# Altium integrated library STMicroelectronics Power Management Linear Regulator.IntLib: 506 symbols (part 10 of 10)
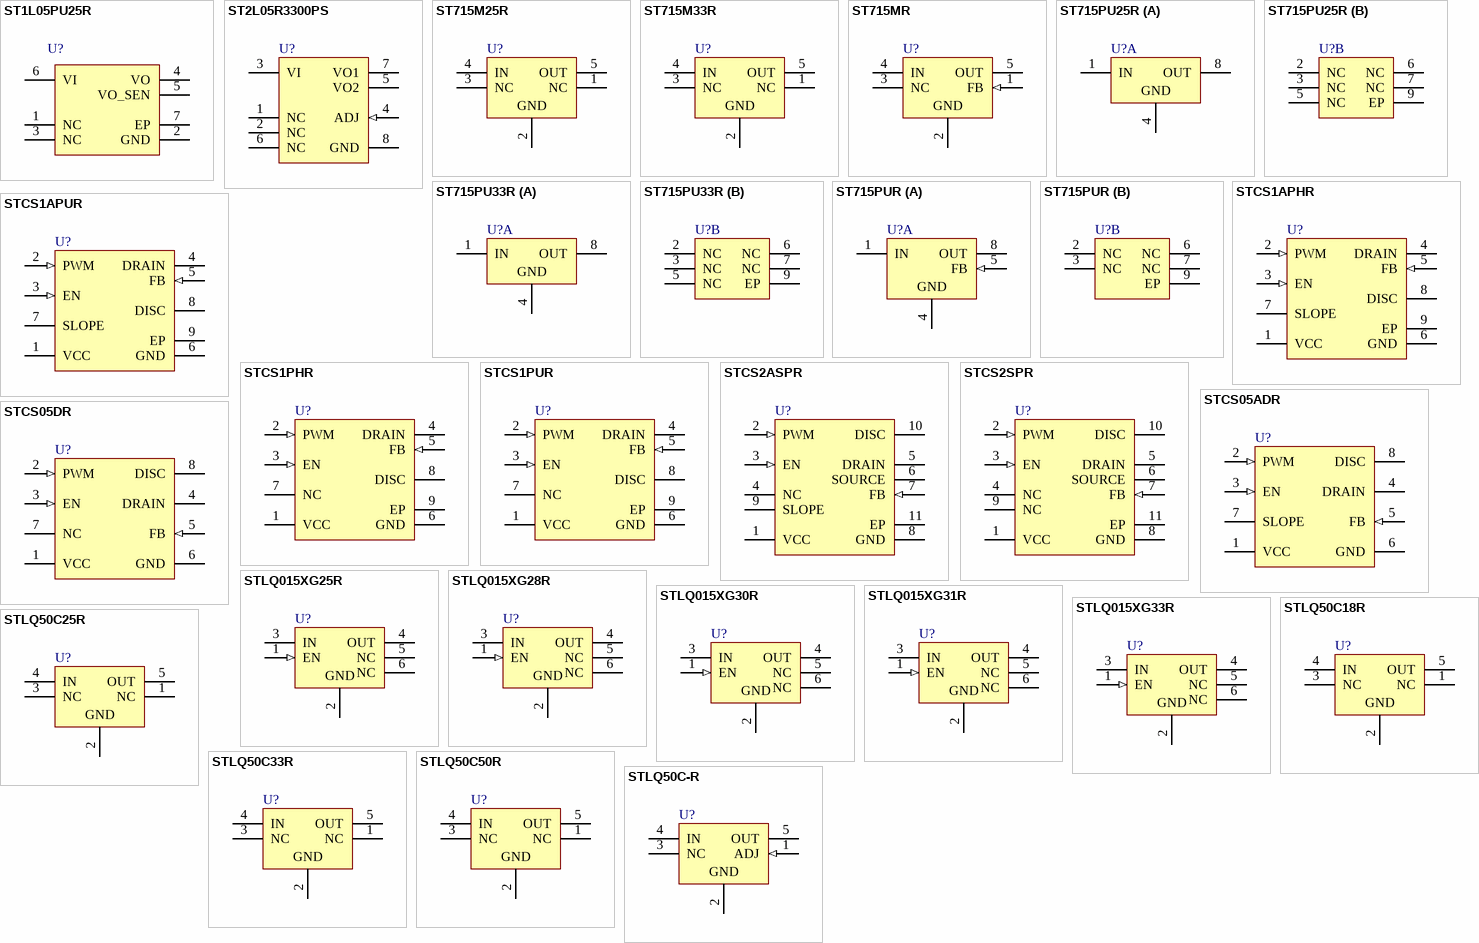
[diagram p21: symbols ST1L05PU25R to STLQ50C-R]

## STLQ50C33R
designator U?
50mA, 3µA Supply Current Low Drop Linear Regulator, 3.3V, 5-Pin SOT-323, Tape and Reel; PartNumber: STLQ50C33R; DatasheetVersion: Nov-2007; PackageVersion: 2006; PackageReference: SOT323-5L; PackageDescription: 5-Pin SOT-323 Package, 2 x 1.3 mm Body, 0.65 mm Pitch, 2.1 mm Lead Span; ComponentLink1Description: Manufacturer URL; ComponentLink1URL: http://www.st.com; ComponentLink2Description: Datasheet; ComponentLink2URL: http://www.st.com/internet/com/TECHNICAL_RESOURCES/TECHNICAL_LITERATURE/DATASHEET/CD00151464.pdf
footprint SOT323-5L_N (SOT323, 5-Leads, Body 2x1.3mm, Pitch 0.65mm, Lead Span 2.1mm, IPC Medium Density)
footprint SOT323-5L_L (SOT323, 5-Leads, Body 2x1.3mm, Pitch 0.65mm, Lead Span 2.1mm, IPC High Density)
footprint SOT323-5L_M (SOT323, 5-Leads, Body 2x1.3mm, Pitch 0.65mm, Lead Span 2.1mm, IPC Low Density)
pins: 1 NC, 2 GND (power), 3 NC, 4 IN (power), 5 OUT (power)

## STLQ50C50R
designator U?
50mA, 3µA Supply Current Low Drop Linear Regulator, 5.0V, 5-Pin SOT-323, Tape and Reel; PartNumber: STLQ50C50R; DatasheetVersion: Nov-2007; PackageVersion: 2006; PackageReference: SOT323-5L; PackageDescription: 5-Pin SOT-323 Package, 2 x 1.3 mm Body, 0.65 mm Pitch, 2.1 mm Lead Span; ComponentLink1Description: Manufacturer URL; ComponentLink1URL: http://www.st.com; ComponentLink2Description: Datasheet; ComponentLink2URL: http://www.st.com/internet/com/TECHNICAL_RESOURCES/TECHNICAL_LITERATURE/DATASHEET/CD00151464.pdf
footprint SOT323-5L_N (SOT323, 5-Leads, Body 2x1.3mm, Pitch 0.65mm, Lead Span 2.1mm, IPC Medium Density)
footprint SOT323-5L_L (SOT323, 5-Leads, Body 2x1.3mm, Pitch 0.65mm, Lead Span 2.1mm, IPC High Density)
footprint SOT323-5L_M (SOT323, 5-Leads, Body 2x1.3mm, Pitch 0.65mm, Lead Span 2.1mm, IPC Low Density)
pins: 1 NC, 2 GND (power), 3 NC, 4 IN (power), 5 OUT (power)

## STLQ50C-R
designator U?
50mA, 3µA Supply Current Low Drop Linear Regulator, Adjustable Vo, 5-Pin SOT-323, Tape and Reel; PartNumber: STLQ50C-R; DatasheetVersion: Nov-2007; PackageVersion: 2006; PackageReference: SOT323-5L; PackageDescription: 5-Pin SOT-323 Package, 2 x 1.3 mm Body, 0.65 mm Pitch, 2.1 mm Lead Span; ComponentLink1Description: Manufacturer URL; ComponentLink1URL: http://www.st.com; ComponentLink2Description: Datasheet; ComponentLink2URL: http://www.st.com/internet/com/TECHNICAL_RESOURCES/TECHNICAL_LITERATURE/DATASHEET/CD00151464.pdf
footprint SOT323-5L_N (SOT323, 5-Leads, Body 2x1.3mm, Pitch 0.65mm, Lead Span 2.1mm, IPC Medium Density)
footprint SOT323-5L_L (SOT323, 5-Leads, Body 2x1.3mm, Pitch 0.65mm, Lead Span 2.1mm, IPC High Density)
footprint SOT323-5L_M (SOT323, 5-Leads, Body 2x1.3mm, Pitch 0.65mm, Lead Span 2.1mm, IPC Low Density)
pins: 1 ADJ (in), 2 GND (power), 3 NC, 4 IN (power), 5 OUT (power)